# EAGLE library part SW_DIP-6 (library special)
DIP SWITCH
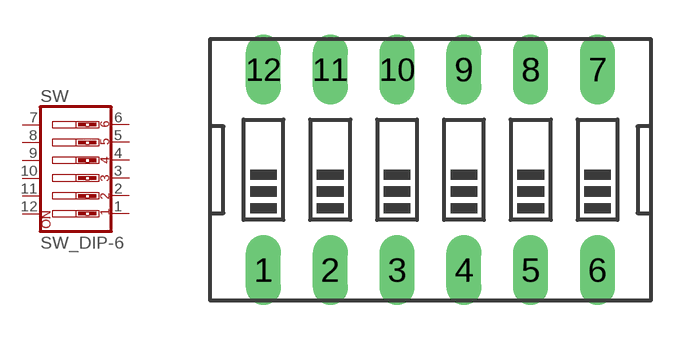
[diagram p9: symbol with the pads of EDG-06; footprint EDG-06]

Designator prefix SW

## SW_DIP-6  [EDG-06]
1  1  pas
2  2  pas
3  3  pas
4  4  pas
5  5  pas
6  6  pas
7  7  pas
8  8  pas
9  9  pas
10  10  pas
11  11  pas
12  12  pas

## Footprint EDG-06 (pad centres in mm)
DIP SWITCH
drill 0.813 long: 1 -6.35,-3.81; 2 -3.81,-3.81; 3 -1.27,-3.81; 4 1.27,-3.81; 5 3.81,-3.81; 6 6.35,-3.81; 7 6.35,3.81; 8 3.81,3.81; 9 1.27,3.81; 10 -1.27,3.81; 11 -3.81,3.81; 12 -6.35,3.81